# Altium integrated library Drivers.IntLib: 2 symbols
Pins are listed as number, name and electrical type; pins without a type are passive.

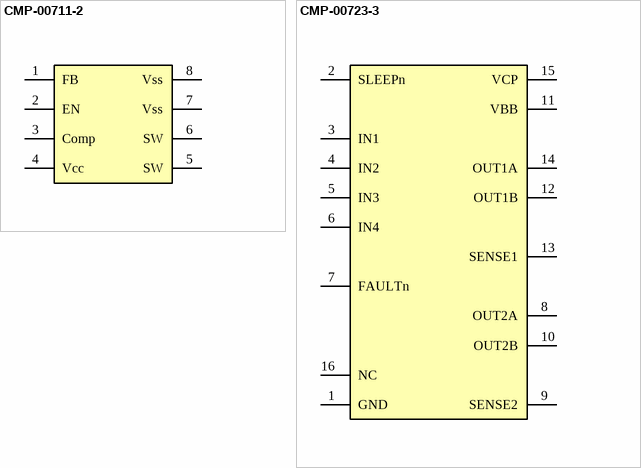
[diagram p0: symbols CMP-00711-2 to CMP-00723-3]

## CMP-00711-2
designator D?, comment AX2003
Component Name: IC, Feedback Voltage Step-Down Switching Regulators for LED Driver, AX2003, SOP-8L; Package: SOP-8L; Marking: AX2003; Value: AX2003; ComponentLink1Description: Datasheet; ComponentLink1URL: http://www.axelite.com.tw/Doc/BinaryData.aspx?id=1da8412f-bfe3-4065-9e0d-3ae4badd1a48; Mounting type: SMD
footprint SOP-8L
pins: 1 FB, 2 EN, 3 Comp, 4 Vcc, 5 SW, 6 SW, 7 Vss, 8 Vss

## CMP-00723-3
designator D?, comment A3916GESTR
A3916GESTR-T; Component Name: IC, Dual DMOS Full-Bridge Motor Driver, A3916GESTR-T, QFN-16; Package: QFN-16; Marking: A3916GESTR; Value: A3916GESTR-T; ComponentLink1Description: Datasheet; ComponentLink1URL: https://www.google.com.ua/url?sa=t&rct=j&q=&esrc=s&source=web&cd=1&cad=rja&uact=8&ved=0ahUKEwiGkYzc4K_YAhUGEJoKHQvwDAAQFggqMAA&url=http%3A%2F%2Fwww.allegromicro.com%2F~%2Fmedia%2FFiles%2FDatasheets%2FA3916-Datasheet.ashx&usg=AOvVaw0u8InIPKgCGjsD7bnosQXU; Mounting type: SMD
footprint QFN-16 3x3x0.5
pins: 1 GND, 2 SLEEPn, 3 IN1, 4 IN2, 5 IN3, 6 IN4, 7 FAULTn, 8 OUT2A, 9 SENSE2, 10 OUT2B, 11 VBB, 12 OUT1B, 13 SENSE1, 14 OUT1A, 15 VCP, 16 NC